# Altium schematic symbol library РМПЕ1515ДГ.Schlib: 1 symbol
Pins are listed as number, name and electrical type; pins without a type are passive.

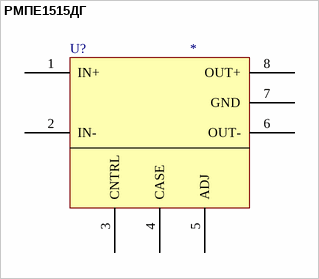
[diagram p0: symbol РМПЕ1515ДГ]

## РМПЕ1515ДГ
designator U?
Назначение: ВИП 100В-30В; Наименование: РМПЕ1515ВДГ
footprint РМПЕ Р-3
pins: 1 IN+, 2 IN-, 3 CNTRL, 4 CASE, 5 ADJ, 6 OUT-, 7 GND, 8 OUT+